# Altium footprint library Package_SO.PcbLib: 33 footprints (part 3 of 3)
Each footprint in its own frame and in the unit in brackets; x right, y up, seen from the top. Pads: shape width x height; smd on the part's side, far side on the other; paste and mask are expansions set on the pad; w line width, h text height; cw(c..) or ccw(c..) is an arc to the next point about the centre after c.
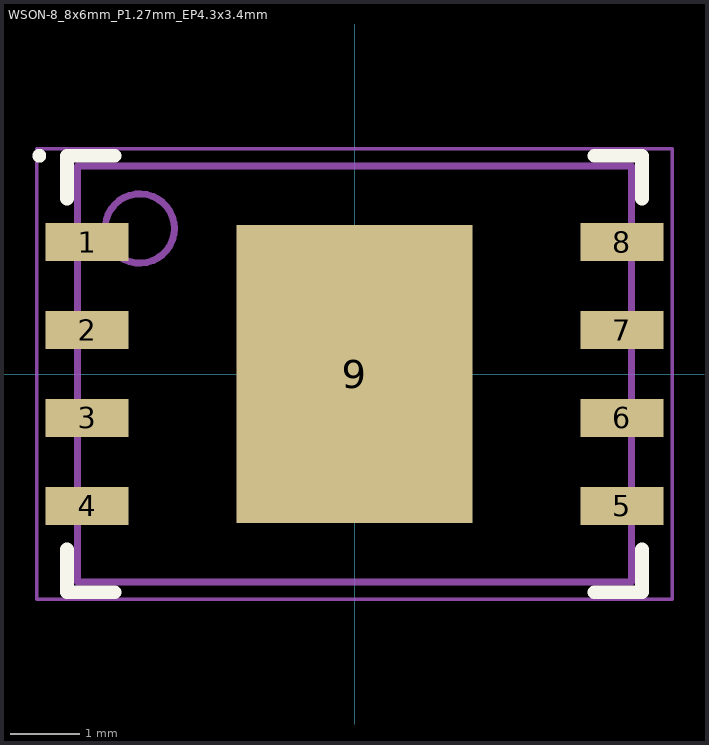
[diagram p2: the footprint, top view; thin cyan lines are the x and y axes]

## WSON-8_8x6mm_P1.27mm_EP4.3x3.4mm [mm] "SON, 8-Leads, Body 6.00x8.00mm, Pitch 1.27mm, Thermal Pad 4.30x3.40mm, IPC Medium Density"
height 0.75
pads (9):
  rect 1.2x0.55 smd: 1(-3.86,1.905) 2(-3.86,0.635) 3(-3.86,-0.635) 4(-3.86,-1.905) 5(3.86,-1.905) 6(3.86,-0.635) 7(3.86,0.635) 8(3.86,1.905)
  rect 3.4x4.3 smd paste-1.7: 9(0,0)
Top Overlay:
  circle w0.1: c-4.55,3.15 r0.05
  lines w0.2: -4.15,-2.53 -4.15,-3.15 -3.46,-3.15 ; -4.15,2.53 -4.15,3.15 -3.46,3.15 ; 3.46,-3.15 4.15,-3.15 4.15,-2.53 ; 3.46,3.15 4.15,3.15 4.15,2.53
Top Paste:
  rectangle: 0.665,-2.045 1.595,-0.815
  rectangle: 0.665,-0.615 1.595,0.615
  rectangle: 0.665,0.815 1.595,2.045
  rectangle: -0.465,-2.045 0.465,-0.815
  rectangle: -0.465,-0.615 0.465,0.615
  rectangle: -0.465,0.815 0.465,2.045
  rectangle: -1.595,-2.045 -0.665,-0.815
  rectangle: -1.595,-0.615 -0.665,0.615
  rectangle: -1.595,0.815 -0.665,2.045
Mechanical 13:
  circle w0.1: c-3.1,2.1 r0.5
  lines w0.1: -4,-3 -4,3 4,3 4,-3 -4,-3
Mechanical 15:
  lines w0.05: -4.585,-3.25 -4.585,3.25 4.585,3.25 4.585,-3.25 -4.585,-3.25
  lines w0.1: -0.5,0 0.5,0 ; 0,-0.5 0,0.5
3D body "SON127P800X75_HS-9N.step": height 0.75, standoff 0, extent -4.001,-3 4.001,3